# Altium footprint library DF40GB(1.5)-48DS-0.4V.PcbLib: 1 footprints
Each footprint in its own frame and in the unit in brackets; x right, y up, seen from the top. Pads: shape width x height; smd on the part's side, far side on the other; paste and mask are expansions set on the pad; w line width, h text height; cw(c..) or ccw(c..) is an arc to the next point about the centre after c.
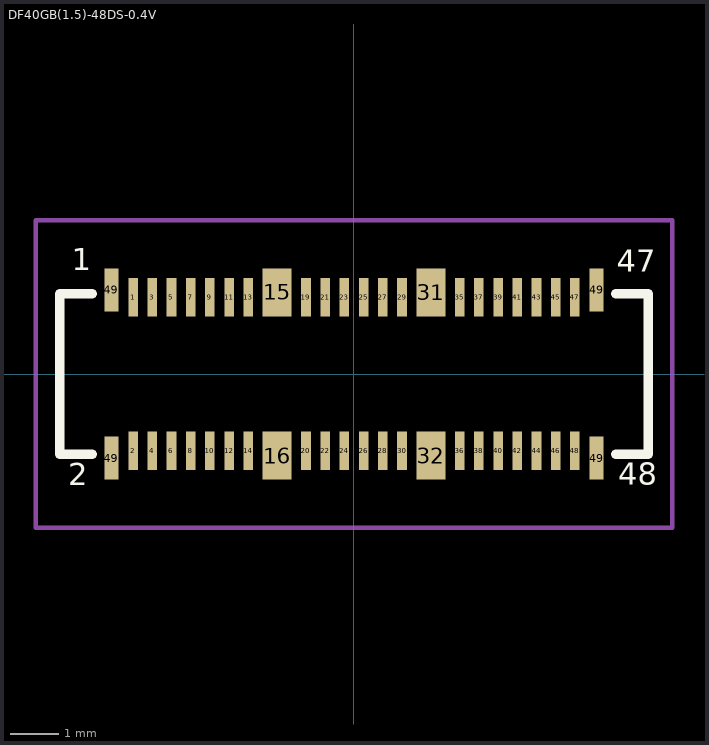
[diagram p0: the footprint, top view; thin cyan lines are the x and y axes]

## DF40GB(1.5)-48DS-0.4V [mm]
pads (48):
  rect 0.2x0.8 smd: 1(-4.6,1.6) 2(-4.6,-1.6) 3(-4.2,1.6) 4(-4.2,-1.6) 5(-3.8,1.6) 6(-3.8,-1.6) 7(-3.4,1.6) 8(-3.4,-1.6) 9(-3,1.6) 10(-3,-1.6) 11(-2.6,1.6) 12(-2.6,-1.6) 13(-2.2,1.6) 14(-2.2,-1.6) 19(-1,1.6) 20(-1,-1.6) 21(-0.6,1.6) 22(-0.6,-1.6) 23(-0.2,1.6) 24(-0.2,-1.6) 25(0.2,1.6) 26(0.2,-1.6) 27(0.6,1.6) 28(0.6,-1.6) 29(1,1.6) 30(1,-1.6) 35(2.2,1.6) 36(2.2,-1.6) 37(2.6,1.6) 38(2.6,-1.6) 39(3,1.6) 40(3,-1.6) 41(3.4,1.6) 42(3.4,-1.6) 43(3.8,1.6) 44(3.8,-1.6) 45(4.2,1.6) 46(4.2,-1.6) 47(4.6,1.6) 48(4.6,-1.6)
  rect 0.6x1 smd: 15(-1.6,1.7) 16(-1.6,-1.7) 31(1.6,1.7) 32(1.6,-1.7)
  rect 0.3x0.9 smd: 49(-5.05,-1.75) 49(-5.05,1.75) 49(5.05,-1.75) 49(5.05,1.75)
Top Overlay:
  lines w0.2: -5.45,-1.675 -6.125,-1.675 -6.125,1.675 -5.45,1.675 ; 5.45,-1.675 6.125,-1.675 6.125,1.675 5.45,1.675
  text "48" at 5.5,-2.465 h0.8
  text "2" at -5.95,-2.475 h0.8
  text "47" at 5.475,1.975 h0.8
  text "1" at -5.875,2 h0.8
Top Courtyard:
  lines w0.1: -6.625,-3.2 -6.625,3.2 6.625,3.2 6.625,-3.2 -6.625,-3.2
3D body "DF40GB(1.5)-48DS-0.4V.stp": height 1.45, standoff 0, extent -6.12,-1.84 6.12,1.84